# Altium schematic symbol library SCH - BOOST - RENSAS ISL78227ARZ.Schlib: 1 symbol
Pins are listed as number, name and electrical type; pins without a type are passive.

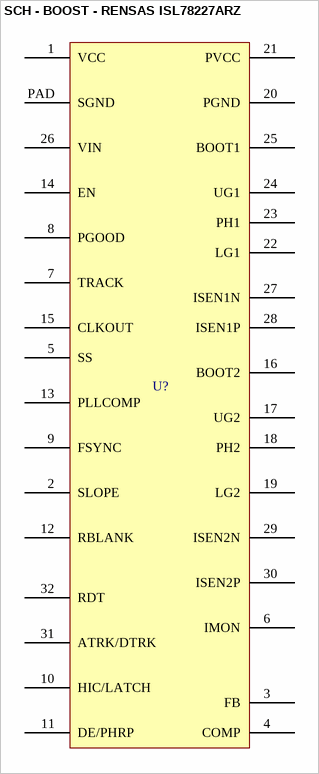
[diagram p0: symbol SCH - BOOST - RENSAS ISL78227ARZ]

## SCH - BOOST - RENSAS ISL78227ARZ
designator U?
footprint QFN32 5x5 (32 LEAD QUAD FLAT NO-LEAD PLASTIC PACKAGE (PUNCH QFN WITH WETABLE FLANK))
pins: 1 VCC, 2 SLOPE, 3 FB, 4 COMP, 5 SS, 6 IMON, 7 TRACK, 8 PGOOD, 9 FSYNC, 10 HIC/LATCH, 11 DE/PHRP, 12 RBLANK, 13 PLLCOMP, 14 EN, 15 CLKOUT, 16 BOOT2, 17 UG2, 18 PH2, 19 LG2, 20 PGND, 21 PVCC, 22 LG1, 23 PH1, 24 UG1, 25 BOOT1, 26 VIN, 27 ISEN1N, 28 ISEN1P, 29 ISEN2N, 30 ISEN2P, 31 ATRK/DTRK, 32 RDT, PAD SGND